# Altium footprint library TE C-1909763.PCBLIB: 1 footprints
Each footprint in its own frame and in the unit in brackets; x right, y up, seen from the top. Pads: shape width x height; smd on the part's side, far side on the other; paste and mask are expansions set on the pad; w line width, h text height; cw(c..) or ccw(c..) is an arc to the next point about the centre after c.
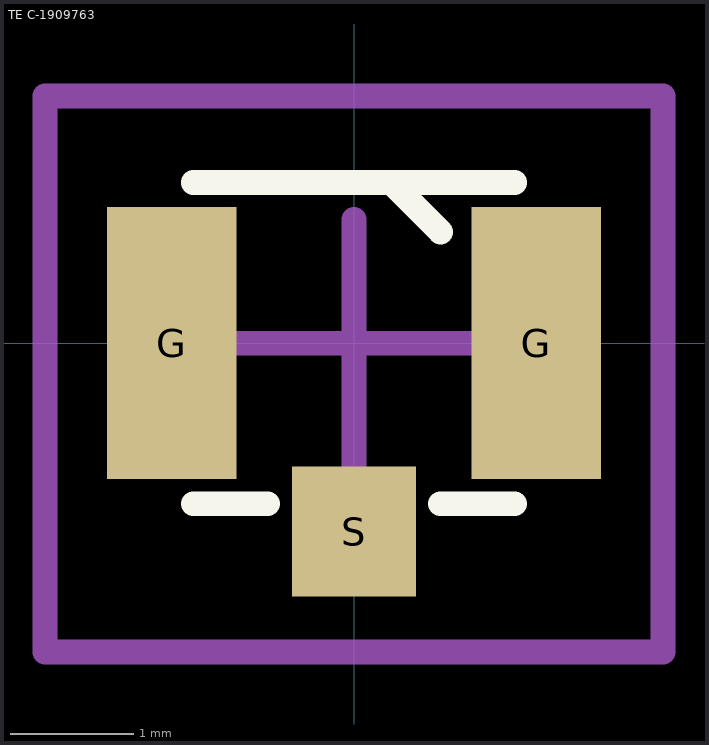
[diagram p0: the footprint, top view; thin cyan lines are the x and y axes]

## TE C-1909763 [mm]
height 1.25
pads (3):
  rect 1.05x2.2 smd: G(-1.475,0) G(1.475,0)
  rect 1x1.05 smd: S(0,-1.525)
Top Overlay:
  lines w0.2: -1.3,-1.3 -0.7,-1.3 ; -1.3,1.3 1.3,1.3 ; 0.3,1.3 0.7,0.9 ; 0.7,-1.3 1.3,-1.3
Mechanical 15:
  lines w0.2: -1,0 1,0 ; 0,-1 0,1 ; -2.5,-2.5 2.5,-2.5 2.5,2 -2.5,2 -2.5,-2.5
3D body "TE 1909763-1.STEP": height 1.23, standoff 0, extent -1.5,-1.55 1.5,1.55